# Altium schematic symbol library STM32CoreBoard.SCHLIB: 25 symbols
Pins are listed as number, name and electrical type; pins without a type are passive.

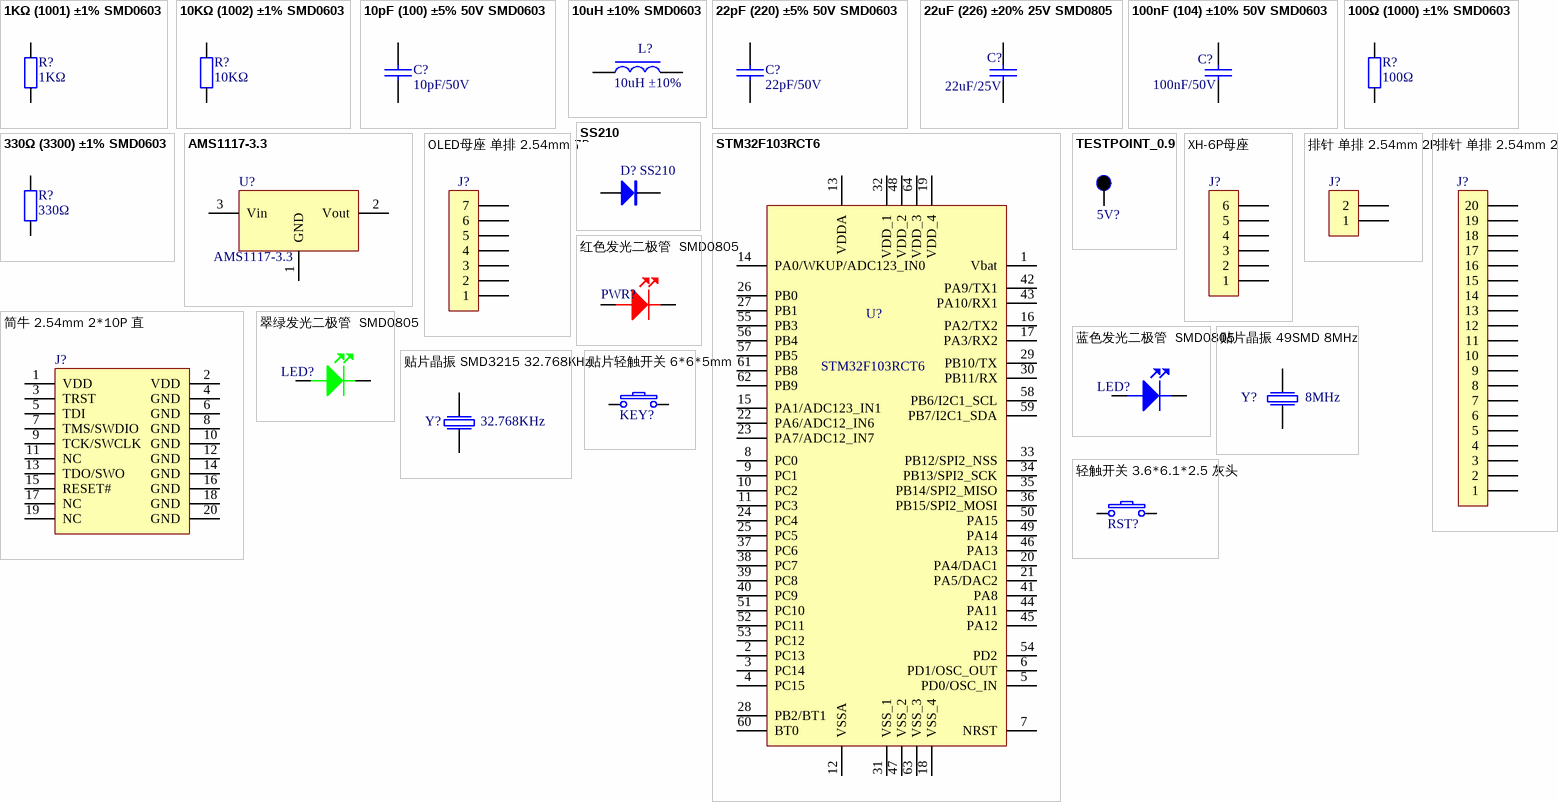
[diagram p0: symbols 1KΩ (1001) ±1% SMD0603 to 轻触开关 3.6*6.1*2.5 灰头]

## 1KΩ (1001) ±1% SMD0603
designator R?  value 1KΩ  (hidden comment: 1KΩ (1001) ±1% SMD0603)
贴片电阻，1KΩ，±1%，SMD0603，UniOhm台湾厚声（授权代理），0603F1001T5E; A.元件编号: C21190; C.元件类别: 贴片电阻; E.封装规格: 0603; F.阻值(Ω)/容值(uF): 1000.0000000000; I.焊盘数量: 2; 备注: 立创可贴片元器件; 单价/元（大批量）: 0.003; B.元件名称: 1KΩ (1001) ±1%; D.元件型号: 0603F1001T5E; G.电压: *; H.精度: ±1%; J.品牌产地: UniOhm台湾厚声（授权代理）
footprint R 0603 (1/10W贴片电阻)
pins: 1, 2

## 10KΩ (1002) ±1% SMD0603
designator R?  value 10KΩ  (hidden comment: 10KΩ (1002) ±1% SMD0603)
贴片电阻，10KΩ，±1%，SMD0603，UniOhm台湾厚声（授权代理），0603WAF1002T5E; A.元件编号: C25804; 备注: 立创可贴片元器件; C.元件类别: 贴片电阻; E.封装规格: 0603; F.阻值(Ω)/容值(uF): 10000.0000000000; I.焊盘数量: 2; 单价/元（大批量）: 0.003; B.元件名称: 10KΩ (1002) ±1%; D.元件型号: 0603WAF1002T5E; G.电压: *; H.精度: ±1%; J.品牌产地: UniOhm台湾厚声（授权代理）
footprint R 0603 (1/10W贴片电阻)
pins: 1, 2

## 10pF (100) ±5% 50V SMD0603
designator C?  value 10pF/50V  (hidden comment: 10pF (100) ±5% 50V SMD0603)
贴片电容，10pF/50V，±5%，SMD0603，SAMSUNG(三星)，CL10C100JB8NNNC; A.元件编号: C1634; C.元件类别: 贴片电容; E.封装规格: 0603; F.阻值(Ω)/容值(uF): 0.0000100000; G.电压: 50.00; I.焊盘数量: 2; 备注: 立创可贴片元器件; 单价/元（大批量）: 0.0066; B.元件名称: 10pF (100) ±5% 50V; D.元件型号: CL10C100JB8NNNC; H.精度: ±5%; J.品牌产地: SAMSUNG(三星)
footprint C 0603 (无极性贴片电容)
pins: 1, 2

## 10uH ±10% SMD0603
designator L?  value 10uH ±10%  (hidden comment: 10uH ±10% SMD0603)
贴片电感，10uH，±10%，SMD0603，Sunlord(顺络)，SDFL1608S100KTF; A.元件编号: C1035; C.元件类别: 贴片电感; E.封装规格: 0603; F.阻值(Ω)/容值(uF): 10.0000000000; I.焊盘数量: 2; 备注: 立创可贴片元器件; 单价/元（大批量）: 0.038; B.元件名称: 10uH ±10%; D.元件型号: SDFL1608S100KTF; H.精度: ±10%; J.品牌产地: Sunlord(顺络)
footprint L 0603 (小功率贴片电感)
pins: 1, 2

## 22pF (220) ±5% 50V SMD0603
designator C?  value 22pF/50V  (hidden comment: 22pF (220) ±5% 50V SMD0603)
贴片电容，22pF/50V，±5%，SMD0603，SAMSUNG(三星)，CL10C220JB8NNNC; A.元件编号: C1653; C.元件类别: 贴片电容; E.封装规格: 0603; F.阻值(Ω)/容值(uF): 0.0000220000; G.电压: 50.00; I.焊盘数量: 2; 备注: 立创可贴片元器件; 单价/元（大批量）: 0.0067; B.元件名称: 22pF (220) ±5% 50V; D.元件型号: CL10C220JB8NNNC; H.精度: ±5%; J.品牌产地: SAMSUNG(三星)
footprint C 0603 (无极性贴片电容)
pins: 1, 2

## 22uF (226) ±20% 25V SMD0805
designator C?  value 22uF/25V  (hidden comment: 22uF (226) ±20% 25V SMD0805)
贴片电容，22uF/25V，±20%，SMD0805，SAMSUNG(三星)，CL21A226MAQNNNE; A.元件编号: C45783; C.元件类别: 贴片电容; E.封装规格: 0805; F.阻值(Ω)/容值(uF): 22.0000000000; G.电压: 25.00; I.焊盘数量: 2; 备注: 立创可贴片元器件; 单价/元（大批量）: 0.134; B.元件名称: 22uF (226) ±20% 25V; D.元件型号: CL21A226MAQNNNE; H.精度: ±20%; J.品牌产地: SAMSUNG(三星)
footprint C 0805 (无极性贴片电容)
pins: 1, 2

## 100nF (104) ±10% 50V SMD0603
designator C?  value 100nF/50V  (hidden comment: 100nF (104) ±10% 50V SMD0603)
贴片电容，100nF/50V，±10%，SMD0603，YAGEO（国巨），CC0603KRX7R9BB104; A.元件编号: C14663; C.元件类别: 贴片电容; E.封装规格: 0603; F.阻值(Ω)/容值(uF): 0.1000000000; G.电压: 50.00; I.焊盘数量: 2; J.品牌产地: YAGEO(国巨); 备注: 立创可贴片元器件; 单价/元（大批量）: 0.0106; B.元件名称: 100nF (104) ±10% 50V; D.元件型号: CC0603KRX7R9BB104; H.精度: ±10%
footprint C 0603 (无极性贴片电容)
pins: 1, 2

## 100Ω (1000) ±1% SMD0603
designator R?  value 100Ω  (hidden comment: 100Ω (1000) ±1% SMD0603)
贴片电阻，100Ω， ±1% ，SMD0603，UniOhm台湾厚声（授权代理），0603WAF1000T5E; A.元件编号: C22775; C.元件类别: 贴片电阻; E.封装规格: 0603; F.阻值(Ω)/容值(uF): 100.0000000000; I.焊盘数量: 2; 备注: 立创可贴片元器件; 单价/元（大批量）: 0.0032; B.元件名称: 100Ω (1000) ±1%; D.元件型号: 0603WAF1000T5E; G.电压: *; H.精度: ±1%; J.品牌产地: UniOhm台湾厚声（授权代理）
footprint R 0603 (1/10W贴片电阻)
pins: 1, 2

## 330Ω (3300) ±1% SMD0603
designator R?  value 330Ω  (hidden comment: 330Ω (3300) ±1% SMD0603)
贴片电阻，330Ω，±1%，SMD0603，UniOhm台湾厚声（授权代理），0603WAF3300T5E; A.元件编号: C23138; C.元件类别: 贴片电阻; E.封装规格: 0603; F.阻值(Ω)/容值(uF): 330.0000000000; I.焊盘数量: 2; 备注: 立创可贴片元器件; 单价/元（大批量）: 0.0032; B.元件名称: 330Ω (3300) ±1%; D.元件型号: 0603WAF3300T5E; G.电压: *; H.精度: ±1%; J.品牌产地: UniOhm台湾厚声（授权代理）
footprint R 0603 (1/10W贴片电阻)
pins: 1, 2

## AMS1117-3.3
designator U?
低压差线性稳压(LDO)，AMS1117-3.3，1117-3.3，美国AMS，AMS1117-3.3; A.元件编号: C6186; 备注: 立创可贴片元器件; I.焊盘数量: 4; E.封装规格: SOT-223; J.品牌产地: 美国AMS; 单价/元（大批量）: 0.484; D.元件型号: AMS1117-3.3; C.元件类别: 低压差线性稳压(LDO); F.阻值(Ω)/容值(uF): 1117-3.3; Value: *; B.元件名称: AMS1117-3.3; H.精度: *; G.电压: *
footprint SOT223_N (6.4x7x1.6mm(长宽高))
pins: 1 GND, 2 Vout, 3 Vin

## OLED母座 单排 2.54mm 7P
designator J?  (value not drawn)
OLED母座，单排，2.54mm，7P; 备注: 立创非可贴片元器件，C5303，2.54mm 1*40T 直 排母，后加工; C.元件类别: 排母; E.封装规格: HDR-1X7; I.焊盘数量: 7; 单价/元（大批量）: 0.66; Value: *; A.元件编号: *; B.元件名称: OLED母座 单排 2.54mm 7P; H.精度: *; G.电压: *; F.阻值(Ω)/容值(uF): *; J.品牌产地: *
footprint OLED SIP2.54-7P
pins: 1, 2, 3, 4, 5, 6, 7

## SS210
designator D?
肖特基二极管，SS210，100V/2A，SMA(DO-214AC)，星海，SS210; A.元件编号: C14996; C.元件类别: 二极管; 备注: 立创可贴片元器件; I.焊盘数量: 2; J.品牌产地: MMD; 单价/元（大批量）: 0.0895; G.电压: 100V，2A，VF=0.85V@2A; D.元件型号: SS210; F.阻值(Ω)/容值(uF): *; Value: *; B.元件名称: SS210; E.封装规格: SMA(DO-214AC); H.精度: *
footprint SMA (4.5x2.6*2.2mm（长宽高，不包括引脚）)
pins: 1 A, 2 K

## STM32F103RCT6
designator U?
微控制器，LQFP64，ST(意法半导体)，STM32F103RCT6; A.元件编号: C8323; 备注: 立创可贴片元器件; E.封装规格: LQFP-64; I.焊盘数量: 64; 单价/元（大批量）: 13.04; Value: *; B.元件名称: STM32F103RCT6; C.元件类别: ST(意法半导体); D.元件型号: STM32F103RCT6; F.阻值(Ω)/容值(uF): *; G.电压: *; H.精度: *; J.品牌产地: ST(意法半导体)
footprint LQFP64 10x10_N
pins: 1 Vbat, 2 PC13, 3 PC14, 4 PC15, 5 PD0/OSC_IN, 6 PD1/OSC_OUT, 7 NRST, 8 PC0, 9 PC1, 10 PC2, 11 PC3, 12 VSSA, 13 VDDA, 14 PA0/WKUP/ADC123_IN0, 15 PA1/ADC123_IN1, 16 PA2/TX2, 17 PA3/RX2, 18 VSS_4, 19 VDD_4, 20 PA4/DAC1, 21 PA5/DAC2, 22 PA6/ADC12_IN6, 23 PA7/ADC12_IN7, 24 PC4, 25 PC5, 26 PB0, 27 PB1, 28 PB2/BT1, 29 PB10/TX, 30 PB11/RX, 31 VSS_1, 32 VDD_1, 33 PB12/SPI2_NSS, 34 PB13/SPI2_SCK, 35 PB14/SPI2_MISO, 36 PB15/SPI2_MOSI, 37 PC6, 38 PC7, 39 PC8, 40 PC9, 41 PA8, 42 PA9/TX1, 43 PA10/RX1, 44 PA11, 45 PA12, 46 PA13, 47 VSS_2, 48 VDD_2, 49 PA14, 50 PA15, 51 PC10, 52 PC11, 53 PC12, 54 PD2, 55 PB3, 56 PB4, 57 PB5, 58 PB6/I2C1_SCL, 59 PB7/I2C1_SDA, 60 BT0, 61 PB8, 62 PB9, 63 VSS_3, 64 VDD_3

## TESTPOINT_0.9
designator 5V?  (value not drawn)
TESTPOINT_0.9，测试点0.9mm，不需焊接; 备注: 测试点不需焊接; A.元件编号: *; B.元件名称: 测试点0.9mm; C.元件类别: *; D.元件型号: *; E.封装规格: *; F.阻值(Ω)/容值(uF): *; G.电压: *; H.精度: *; I.焊盘数量: *; J.品牌产地: *; 单价/元（大批量）: *; Value: *
footprint TESTPOINT_0.9 (测试点)
pins: 1
2 alternate drawings of the same symbol

## XH-6P母座
designator J?  (value not drawn)
XH-6A，脚距2.54mm，直针带锁，国产; 备注: 立创非可贴片元器件; A.元件编号: C70009; B.元件名称: XB-6A，6P，脚距2.54mm，直针; C.元件类别: XH连接器; D.元件型号: XHB-6A 直针白色; E.封装规格: XH2.54-6P; I.焊盘数量: 6; J.品牌产地: 国产; 单价/元（大批量）: 0.0755; Value: *; F.阻值(Ω)/容值(uF): *; G.电压: *; H.精度: *
footprint XH2.54-6P (接插件，6P)
pins: 1, 2, 3, 4, 5, 6

## 排针 单排 2.54mm 2P
designator J?  (value not drawn)
排针，单排，2.54mm，2P，国产; 备注: 立创非可贴片元器件，C2337，2.54mm 1*40P 直 排针，后加工; E.封装规格: HDR-1X2; B.元件名称: 2.54mm 1*2P 直 排针; I.焊盘数量: 2; 单价/元（大批量）: 0.31; Value: *; C.元件类别: 排针; A.元件编号: *; D.元件型号: *; H.精度: *; G.电压: *; F.阻值(Ω)/容值(uF): *; J.品牌产地: *
footprint HDR-1x2 (排针，2脚)
pins: 1, 2

## 排针 单排 2.54mm 20P
designator J?  (value not drawn)
排针，单排，2.54mm，20P，国产; 备注: 立创非可贴片元器件，C2337，2.54mm 1*40P 直 排针，后加工; E.封装规格: HDR-1X20; B.元件名称: 2.54mm 20P 直 排针; I.焊盘数量: 20; 单价/元（大批量）: 0.31; Value: *; C.元件类别: 排针; A.元件编号: *; D.元件型号: *; H.精度: *; G.电压: *; F.阻值(Ω)/容值(uF): *; J.品牌产地: *
footprint HDR-1X20 (排针，20脚)
pins: 1, 2, 3, 4, 5, 6, 7, 8, 9, 10, 11, 12, 13, 14, 15, 16, 17, 18, 19, 20

## 简牛 2.54mm 2*10P 直
designator J?  (value not drawn)
简牛，2.54mm，2*10P，直，国产; 备注: 立创非可贴片元器件; A.元件编号: C3405; C.元件类别: 牛角连接器; E.封装规格: DIP-20; I.焊盘数量: 20; J.品牌产地: 国产; 单价/元（大批量）: 0.33; B.元件名称: 简牛 2.54mm 2*10P 直; D.元件型号: 简牛 2.54mm 2*10P 直; F.阻值(Ω)/容值(uF): *; G.电压: *; H.精度: *
footprint IDC2.54-20P (20P简易牛角座)
pins: 1 VDD, 2 VDD, 3 TRST, 4 GND, 5 TDI, 6 GND, 7 TMS/SWDIO, 8 GND, 9 TCK/SWCLK, 10 GND, 11 NC, 12 GND, 13 TDO/SWO, 14 GND, 15 RESET#, 16 GND, 17 NC, 18 GND, 19 NC, 20 GND

## 红色发光二极管  SMD0805
designator PWR?  (value not drawn)
红色发光二极管，SMD0805，国星光电 ，FC-2012HRK-620D; A.元件编号: C84256; 备注: 立创可贴片元器件; B.元件名称: 红灯 贴片LED (80-180mcd) 编带; C.元件类别: 发光二极管; E.封装规格: 0805（红色）; F.阻值(Ω)/容值(uF): red; J.品牌产地: 国星光电; I.焊盘数量: 2; 单价/元（大批量）: 0.0452; D.元件型号: FC-2012HRK-620D; G.电压: *; H.精度: *; Value: *
footprint LED 0805R (红色0805LED)
pins: 1 A, 2 K

## 翠绿发光二极管  SMD0805
designator LED?  (value not drawn)
翠绿发光二极管 ，SMD0805，国产，0805G (翠绿); A.元件编号: C2297; 备注: 立创可贴片元器件; C.元件类别: 发光二极管; E.封装规格: 0805; F.阻值(Ω)/容值(uF): green; I.焊盘数量: 2; J.品牌产地: 国产; 单价/元（大批量）: 0.052; B.元件名称: 翠绿; D.元件型号: 0805G (翠绿); G.电压: *; H.精度: *; Value: *
footprint LED 0805G (绿色0805LED)
pins: 1 A, 2 K

## 蓝色发光二极管  SMD0805
designator LED?  (value not drawn)
蓝色发光二极管，SMD0805，国星光电，FC-A2012BK-470H2; A.元件编号: C84259; 备注: 立创可贴片元器件; B.元件名称: 蓝灯 贴片LED (20-55mcd) 编带; C.元件类别: 发光二极管; E.封装规格: 0805; F.阻值(Ω)/容值(uF): blue; I.焊盘数量: 2; J.品牌产地: 国星光电; 单价/元（大批量）: 0.0735; Value: *; D.元件型号: FC-A2012BK-470H2; G.电压: *; H.精度: *
footprint LED 0805B
pins: 1 A, 2 K

## 贴片晶振 49SMD 8MHz
designator Y?  value 8MHz  (hidden comment: 贴片晶振 49SMD 8MHz)
贴片晶振，49SMD， 8MHz，HC-49SMD，YXC; A.元件编号: C12674; 备注: 立创非可贴片元器件; B.元件名称: HC-49SMD 8MHZ 20PF 20PPM; D.元件型号: X49SM8MSD2SC; I.焊盘数量: 2; J.品牌产地: YXC; 单价/元（大批量）: 0.366; C.元件类别: 49SMD; E.封装规格: HC-49SMD; F.阻值(Ω)/容值(uF): *; G.电压: *; H.精度: *
footprint XTAL-49S SMD
pins: 1, 2

## 贴片晶振 SMD3215 32.768KHz
designator Y?  value 32.768KHz  (hidden comment: 贴片晶振 SMD3215 32.768KHz)
贴片晶振，SMD3215，32.768KHz，EPSON(爱普生)，Q13FC1350000400; 备注: 立创非可贴片元器件; B.元件名称: 32.768KHz ±20ppm 12.5pF; A.元件编号: C32346; I.焊盘数量: 2; 单价/元（大批量）: 0.65; J.品牌产地: EPSON(爱普生); E.封装规格: SMD-3215; D.元件型号: Q13FC1350000400; F.阻值(Ω)/容值(uF): *; C.元件类别: 贴片晶振; H.精度: *; G.电压: *
footprint XTAL-3215
pins: 1, 2

## 贴片轻触开关 6*6*5mm
designator KEY?  (value not drawn)
贴片轻触开，6*6*5mm，SMD/6*6*5; A.元件编号: C127509; 备注: 立创非可贴片元器件; C.元件类别: 轻触开关; I.焊盘数量: 4; J.品牌产地: 韩国韩荣; 单价/元（大批量）: 0.18; B.元件名称: 贴片轻触开关 6*6*5mm; D.元件型号: 贴片轻触开关 6*6*5mm; E.封装规格: SMD/6*6*5; F.阻值(Ω)/容值(uF): *; G.电压: *; H.精度: *; Value: *
footprint TSW SMD-6*6*5 (Footprint not found)
pins: 1, 2

## 轻触开关 3.6*6.1*2.5 灰头
designator RST?  (value not drawn)
贴片轻触开关，  灰头，  3.6*6.1*2.5，SMD/3.6*6.1*2.5; A.元件编号: C118141; 备注: 立创非可贴片元器件; I.焊盘数量: 2; J.品牌产地: 韩国韩荣; 单价/元（大批量）: 0.21; B.元件名称: 轻触开关 3.6*6.1*2.5 灰头; C.元件类别: 轻触开关; D.元件型号: 轻触开关 3.6*6.1*2.5 灰头; E.封装规格: SMD/3.6*6.1*2.5; F.阻值(Ω)/容值(uF): *; G.电压: *; H.精度: *; Value: *
footprint TSW SMD-3.6*6.1*2.5 (Footprint not found)
pins: 1, 2